# Altium integrated library 3 Pin JST.IntLib: 1 symbol
Pins are listed as number, name and electrical type; pins without a type are passive.

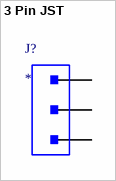
[diagram p0: symbol 3 Pin JST]

## 3 Pin JST
designator J?
footprint 3 Pin JST
pins: 1, 2, 3